# Altium footprint library Pwrlib.PcbLib: 21 footprints (part 2 of 2)
Each footprint in its own frame and in the unit in brackets; x right, y up, seen from the top. Pads: shape width x height; smd on the part's side, far side on the other; paste and mask are expansions set on the pad; w line width, h text height; cw(c..) or ccw(c..) is an arc to the next point about the centre after c.
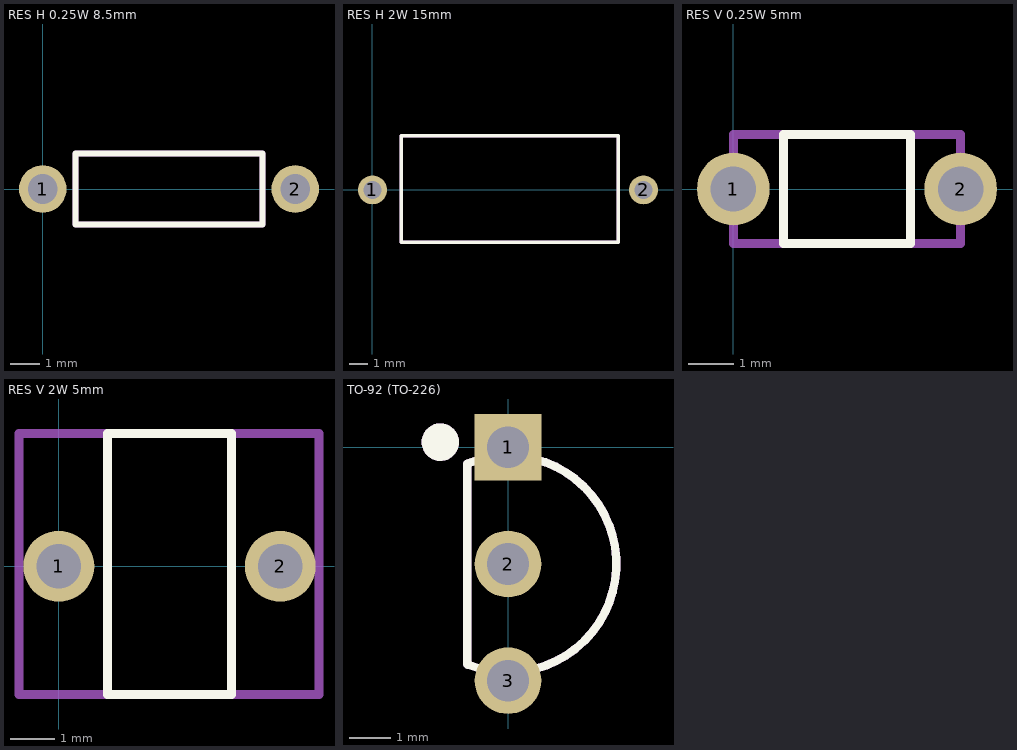
[diagram p1: the footprints below, top view; thin cyan lines are the x and y axes]

## RES H 0.25W 8.5mm [mm]
pads (2):
  round 1.6 hole 1: 1(0,0) 2(8.5,0)
Top Overlay:
  lines w0.2: 1.1,-1.2 7.4,-1.2 7.4,1.2 1.1,1.2 1.1,-1.2
Mechanical 1:
  circle w0.1: c8.5,0 r0.275
  circle w0.1: c0,0 r0.275
Assembly Draw:
  lines w0.2: 1.1,-1.2 1.1,1.2 7.4,1.2 7.4,-1.2 1.1,-1.2
  text "'.Designator'" at 2.125,-0.75 h1.5
3D body: height 1.62, standoff 1.08, extent -0.1,-0.273 5.1,0.275
3D body: height 2.55, standoff 0.15, extent 1.05,-1.15 7.35,1.24
3D body: height 1.62, standoff 1.08, extent 3.4,-0.275 8.6,0.273
3D body: height 1.6, standoff -2, extent -0.274,-0.274 0.275,0.275
3D body: height 1.6, standoff -2, extent 8.226,-0.274 8.775,0.275

## RES H 2W 15mm [mm]
pads (2):
  round 1.6 hole 1: 1(0,0) 2(15,0)
Top Overlay:
  lines w0.2: 1.6,-2.9 1.6,3 13.6,3 13.6,-2.9 1.6,-2.9
Mechanical 1:
  circle w0.1: c15,0 r0.325
  circle w0.1: c0,0 r0.325
Assembly Draw:
  lines w0.2: 1.6,-2.9 13.6,-2.9 13.6,3 1.6,3 1.6,-2.9
  text "'.Designator'" at 5.25,-0.375 h1.5
3D body: height 3.32, standoff 2.68, extent 9.9,-0.325 15.1,0.322
3D body: height 3, standoff -2, extent 14.675,-0.325 15.324,0.324
3D body: height 3, standoff -2, extent -0.324,-0.324 0.325,0.325
3D body: height 3.32, standoff 2.68, extent -0.1,-0.322 5.1,0.325
3D body: height 6, standoff 0, extent 1.6,-2.9 13.6,3.1

## RES V 0.25W 5mm [mm]
pads (2):
  round 1.6 hole 1: 1(0,0) 2(5,0)
Top Overlay:
  lines w0.2: 1.1,-1.2 1.1,1.2 3.9,1.2 3.9,-1.2 1.1,-1.2
Assembly Draw:
  lines w0.2: 0,-1.2 5,-1.2 5,1.2 0,1.2 0,-1.2
  text "'.Designator'" at 1,-0.85 h1.5
3D body: height 6.3, standoff 0, extent -1.347,-1.35 1.347,1.339
3D body: height 3.2, standoff -2, extent 4.673,-0.325 5.222,0.223
3D body: height 8, standoff -2, extent -0.327,-0.323 0.222,0.225
3D body: height 8.14, standoff 2.81, extent -0.272,-0.32 5.065,0.229

## RES V 2W 5mm [mm]
pads (2):
  round 1.6 hole 1: 1(0,0) 2(5,0)
Top Overlay:
  lines w0.2: 1.1,-2.9 3.9,-2.9 3.9,3 1.1,3 1.1,-2.9
Assembly Draw:
  lines w0.2: -0.9,-2.9 -0.9,3 5.875,3 5.875,-2.9 -0.9,-2.9
  text "'.Designator'" at 0.7,-0.55 h1.5
3D body: height 13.62, standoff 10.71, extent -0.129,-0.349 5.129,0.3
3D body: height 13, standoff -2, extent -0.324,-0.322 0.324,0.325
3D body: height 11, standoff -2, extent 4.676,-0.325 5.325,0.322
3D body: height 12, standoff 0, extent -2.947,-2.95 3.053,3.05

## TO-92 (TO-226) [mm]
pads (3):
  rect 1.6x1.6 hole 1: 1(0,0)
  round 1.6 hole 1: 2(0,-2.8) 3(0,-5.6)
Top Overlay:
  circle w0.5: c-1.625,0.125 r0.2
  lines w0.2: -0.977,-5.203 -0.977,-0.39 cw(c0,-2.8) -0.966,-5.214
Assembly Draw:
  circle w0.5: c-1.625,0.125 r0.2
  lines w0.2: -0.977,-5.203 -0.977,-0.39 cw(c0,-2.8) -0.966,-5.214
  text "'.Designator'" at -0.35,-3.425 h1.5
3D body: height 3.2, standoff -2, extent -0.273,-0.348 0.274,0.201
3D body: height 4.26, standoff 2.81, extent -0.274,-1.448 0.274,0
3D body: height 4.26, standoff 2.81, extent -0.299,-5.649 0.25,-4.201
3D body: height 8, standoff -2, extent -0.323,-3.074 0.225,-2.525
3D body: height 3.2, standoff -2, extent -0.299,-5.85 0.249,-5.301
3D body: height 9.3, standoff 4, extent -0.976,-5.426 2.625,-0.224